# Altium footprint library jointbar.PCBLIB: 75 footprints (part 2 of 5)
Each footprint in its own frame and in the unit in brackets; x right, y up, seen from the top. Pads: shape width x height; smd on the part's side, far side on the other; paste and mask are expansions set on the pad; w line width, h text height; cw(c..) or ccw(c..) is an arc to the next point about the centre after c.
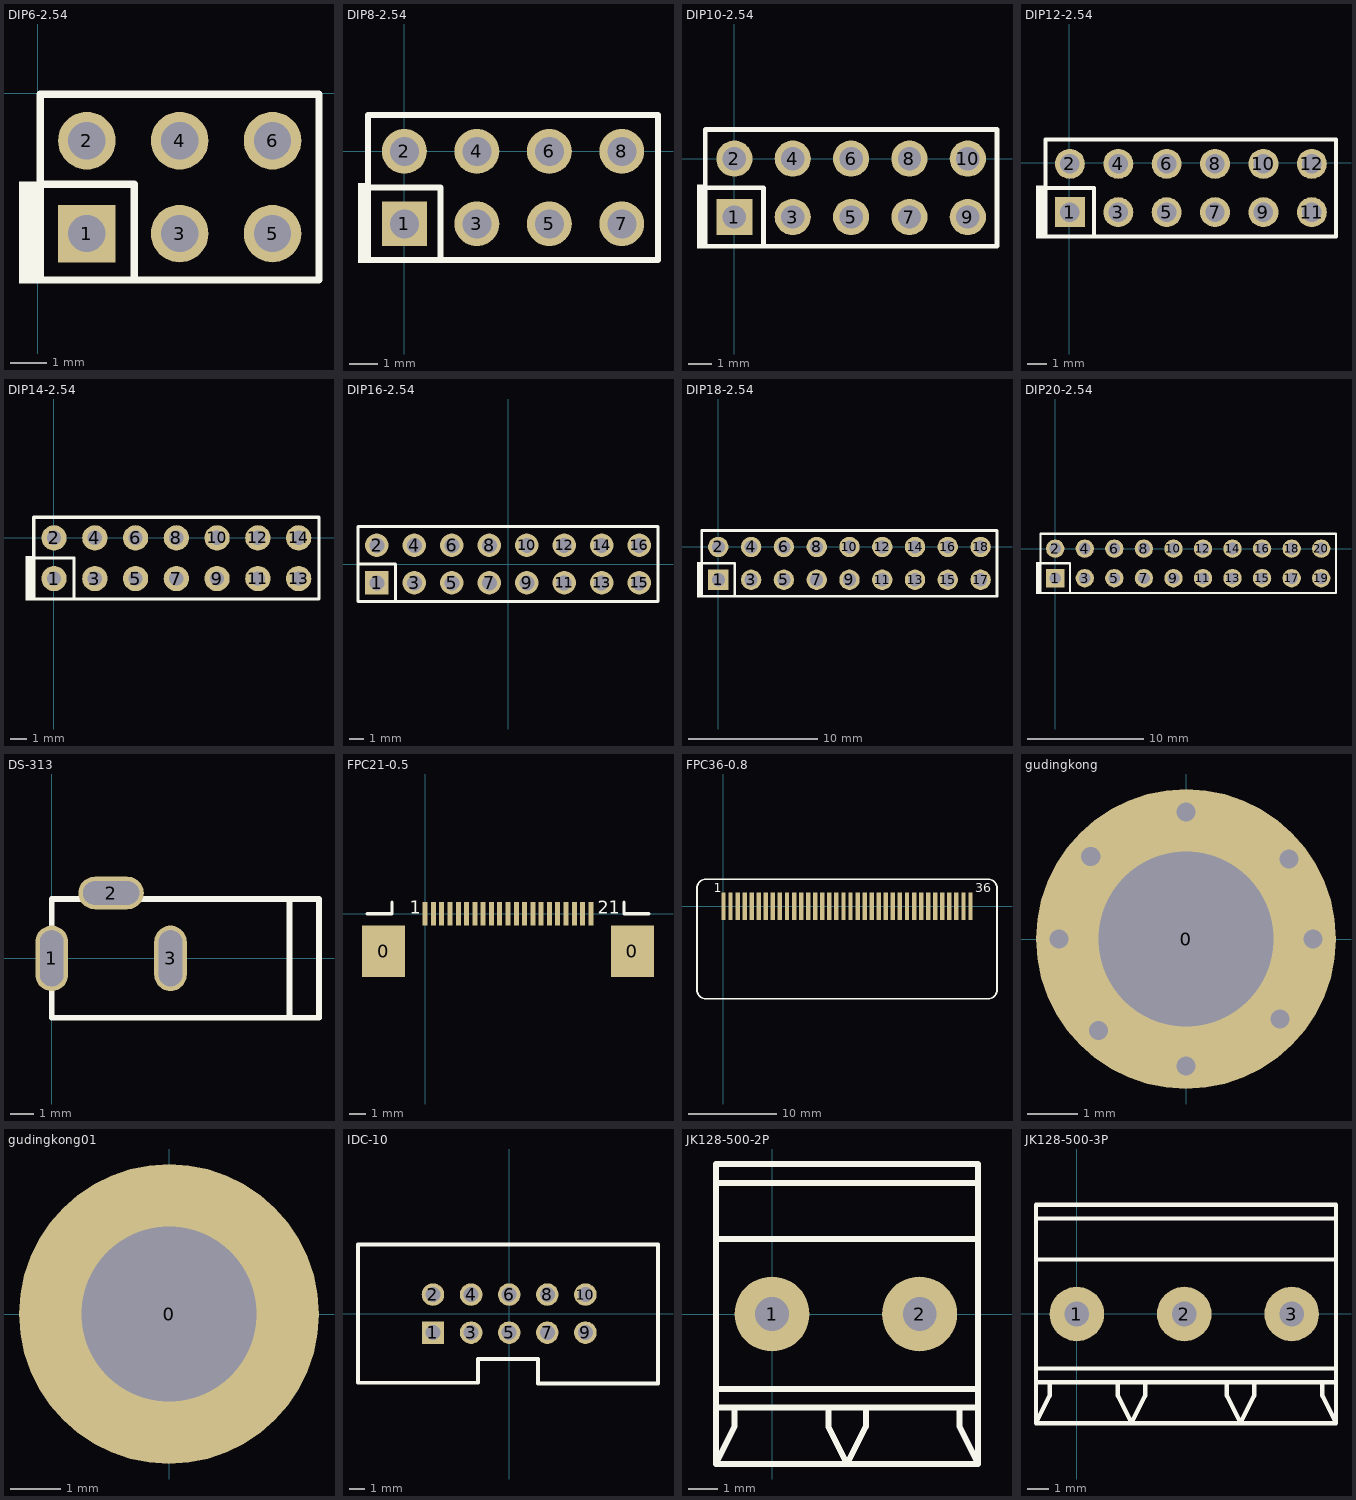
[diagram p1: the footprints below, top view; thin cyan lines are the x and y axes]

## DIP6-2.54 [mil]
pads (6):
  rect 62x62 hole 40: 1(53,-151)
  round 62 hole 40: 2(53,-51) 3(153,-151) 4(153,-51) 5(253,-151) 6(253,-51)
TopOverlay:
  rectangle: -20,-205 3,-95
  lines w8: 3,-98 104,-98 104,-200 ; 3,-201 3,-1 303,-1 303,-201 3,-201

## DIP8-2.54 [mil]
pads (8):
  rect 62x62 hole 40: 1(0,-100)
  round 62 hole 40: 2(0,0) 3(100,-100) 4(100,0) 5(200,-100) 6(200,0) 7(300,-100) 8(300,0)
TopOverlay:
  rectangle: -64,-154 -50,-44
  lines w8: -50,-50 50,-50 50,-150 ; -50,-150 -50,50 350,50 350,-150 -50,-150

## DIP10-2.54 [mil]
pads (10):
  rect 62x62 hole 40: 1(0,-100)
  round 62 hole 40: 2(0,0) 3(100,-100) 4(100,0) 5(200,-100) 6(200,0) 7(300,-100) 8(300,0) 9(400,-100) 10(400,0)
TopOverlay:
  rectangle: -64,-154 -50,-44
  lines w8: -50,-50 50,-50 50,-150 ; -50,-150 -50,50 450,50 450,-150 -50,-150

## DIP12-2.54 [mil]
pads (12):
  rect 62x62 hole 40: 1(1,-102)
  round 62 hole 40: 2(1,-2) 3(101,-102) 4(101,-2) 5(201,-102) 6(201,-2) 7(301,-102) 8(301,-2) 9(401,-102) 10(401,-2) 11(501,-102) 12(501,-2)
TopOverlay:
  rectangle: -69,-156 -49,-47
  lines w8: -49,-52 51,-52 51,-151 ; -49,-152 551,-152 551,48 -49,48 -49,-152

## DIP14-2.54 [mil]
pads (14):
  round 62 hole 35: 1(1,-99.67) 2(1,0.33) 3(101,-99.67) 4(101,0.33) 5(201,-99.67) 6(201,0.33) 7(301,-99.67) 8(301,0.33) 9(401,-99.67) 10(401,0.33) 11(501,-99.67) 12(501,0.33) 13(601,-99.67) 14(601,0.33)
TopOverlay:
  rectangle: -69,-153.67 -49,-44
  lines w8: -49,-49 49,-49 50,-50 50,-148.67 49,-149.67 ; -49,-149.67 651,-149.67 651,51 -49,51 -49,-149.67

## DIP16-2.54 [mil]
pads (16):
  rect 62x62 hole 40: 1(-350,-50)
  round 62 hole 40: 2(-350,50) 3(-250,-50) 4(-250,50) 5(-150,-50) 6(-150,50) 7(-50,-50) 8(-50,50) 9(50,-50) 10(50,50) 11(150,-50) 12(150,50) 13(250,-50) 14(250,50) 15(350,-50) 16(350,50)
TopOverlay:
  lines w8: -400,0 -300,0 -300,-100 ; -400,-100 400,-100 400,100 -400,100 -400,-100

## DIP18-2.54 [mil]
height 10
pads (18):
  rect 62x62 hole 40: 1(0,-100)
  round 62 hole 40: 2(0,0) 3(100,-100) 4(100,0) 5(200,-100) 6(200,0) 7(300,-100) 8(300,0) 9(400,-100) 10(400,0) 11(500,-100) 12(500,0) 13(600,-100) 14(600,0) 15(700,-100) 16(700,0) 17(800,-100) 18(800,0)
TopOverlay:
  rectangle: -65,-154 -50,-46
  lines w8: -50,-50 50,-50 50,-150 ; -50,-150 850,-150 850,50 -50,50 -50,-150

## DIP20-2.54 [mil]
height 10
pads (20):
  rect 62x62 hole 40: 1(0,-100)
  round 62 hole 40: 2(0,0) 3(100,-100) 4(100,0) 5(200,-100) 6(200,0) 7(300,-100) 8(300,0) 9(400,-100) 10(400,0) 11(500,-100) 12(500,0) 13(600,-100) 14(600,0) 15(700,-100) 16(700,0) 17(800,-100) 18(800,0) 19(900,-100) 20(900,0)
TopOverlay:
  rectangle: -65,-154 -50,-46
  lines w8: -50,-50 50,-50 50,-150 ; -50,-150 -50,50 950,50 950,-150 -50,-150

## DS-313 [mm]
pads (3):
  oval 1.4x2.8 hole 1 slot 2.4 at 90 deg: 1(0,0) 3(5.08,0)
  oval 2.8x1.4 hole 1 slot 2.4 at 0 deg: 2(2.54,2.794)
TopOverlay:
  lines w0.254: 10.16,-2.54 10.16,2.54 ; 0,-2.54 11.43,-2.54 11.43,2.54 0,2.54 0,-2.54

## FPC21-0.5 [mm]
pads (23):
  rect 2.6x3.1 smd: 0(-2.5,-2.25) 0(12.5,-2.25)
  rect 0.3x1.4 smd: 1(0,0) 2(0.5,0) 3(1,0) 4(1.5,0) 5(2,0) 6(2.5,0) 7(3,0) 8(3.5,0) 9(4,0) 10(4.5,0) 11(5,0) 12(5.5,0) 13(6,0) 14(6.5,0) 15(7,0) 16(7.5,0) 17(8,0) 18(8.5,0) 19(9,0) 20(9.5,0) 21(10,0)
TopOverlay:
  lines w0.203: -3.5,0 -2,0 -2,0.7 ; 12,0.7 12,0 13.5,0
  text "21" at 10.414,0 h0.76
  text "1" at -0.914,0 h0.76

## FPC36-0.8 [mm]
pads (36):
  rect 0.5x3.1 smd: 1(0,0) 2(0.8,0) 3(1.6,0) 4(2.4,0) 5(3.2,0) 6(4,0) 7(4.8,0) 8(5.6,0) 9(6.4,0) 10(7.2,0) 11(8,0) 12(8.8,0) 13(9.6,0) 14(10.4,0) 15(11.2,0) 16(12,0) 17(12.8,0) 18(13.6,0) 19(14.4,0) 20(15.2,0) 21(16,0) 22(16.8,0) 23(17.6,0) 24(18.4,0) 25(19.2,0) 26(20,0) 27(20.8,0) 28(21.6,0) 29(22.4,0) 30(23.2,0) 31(24,0) 32(24.8,0) 33(25.6,0) 34(26.4,0) 35(27.2,0) 36(28,0)
TopOverlay:
  lines w0.203: -3,-9.5 ccw(c-2,-9.5) -2,-10.5 30,-10.5 ccw(c30,-9.5) 31,-9.5 31,2.05 ccw(c30,2.05) 30,3.05 -2,3.05 ccw(c-2,2.05) -3,2.05 -3,-9.5
  text "36" at 28.524,1.575 h1.02
  text "1" at -1.092,1.549 h1.02

## gudingkong [mm]
pads (1):
  round 6 hole 3.5: 0(0,0)
via 1.88,-1.6 diameter 0.762 hole 0.381
via -1.753,-1.829 diameter 0.762 hole 0.381
via 2.057,1.6 diameter 0.762 hole 0.381
via -1.905,1.651 diameter 0.762 hole 0.381
via 2.54,0 diameter 0.762 hole 0.381
via -2.54,0 diameter 0.762 hole 0.381
via 0,-2.54 diameter 0.762 hole 0.381
via 0,2.54 diameter 0.762 hole 0.381

## gudingkong01 [mm]
pads (1):
  round 6 hole 3.5: 0(0,0)

## IDC-10 [mm]
pads (10):
  rect 1.499x1.499 hole 1: 1(-5.08,-1.27)
  round 1.5 hole 1: 2(-5.08,1.27) 3(-2.54,-1.27) 4(-2.54,1.27) 5(0,-1.27) 6(0,1.27) 7(2.54,-1.27) 8(2.54,1.27) 9(5.08,-1.27) 10(5.08,1.27)
TopOverlay:
  lines w0.254: -10.08,-4.612 -2.08,-4.612 -2.08,-3.017 1.92,-3.017 1.92,-4.652 9.92,-4.652 9.92,4.598 -10.08,4.598 -10.08,-4.612

## JK128-500-2P [mil]
pads (2):
  round 100 hole 45: 1(0,0) 2(196.85,0)
TopOverlay:
  lines w8: -75,-125 275,-125 ; -75,-100 275,-100 ; -75,100 275,100 ; -75,175 275,175 ; -50,-125 -50,-150 -75,-200 ; 75,-125 75,-150 100,-200 125,-150 125,-125 ; 250,-125 250,-150 275,-200 ; -75,-200 -75,200 275,200 275,-200 ; -75,-200 275,-200

## JK128-500-3P [mil]
pads (3):
  round 100 hole 45: 1(0,-0.02) 2(196.85,-0.02) 3(393.7,-0.02)
TopOverlay:
  lines w8: -75,-125.02 225,-125.02 275,-125.02 275,-150.02 300,-200.02 325,-150.02 325,-125.02 ; -75,99.98 225,99.98 275,99.98 ; -75,174.98 225,174.98 275,174.98 ; -50,-125.02 -50,-150.02 -75,-200.02 ; 75,-125.02 75,-150.02 100,-200.02 125,-150.02 125,-125.02 425,-125.02 475,-125.02 ; 125,-200.02 425,-200.02 475,-200.02 ; 125,-100.02 425,-100.02 475,-100.02 ; 125,99.98 425,99.98 475,99.98 ; 125,174.98 425,174.98 475,174.98 ; 125,199.98 425,199.98 475,199.98 475,149.98 475,-150.02 475,-200.02 ; 275,-200.02 225,-200.02 -75,-200.02 ; 275,-100.02 225,-100.02 -75,-100.02 ; 275,199.98 225,199.98 -75,199.98 -75,-100.02 ; 450,-125.02 450,-150.02 475,-200.02 ; -75,-200.02 -75,-100.02